# EAGLE library part ADRESA_0..2 (library library)
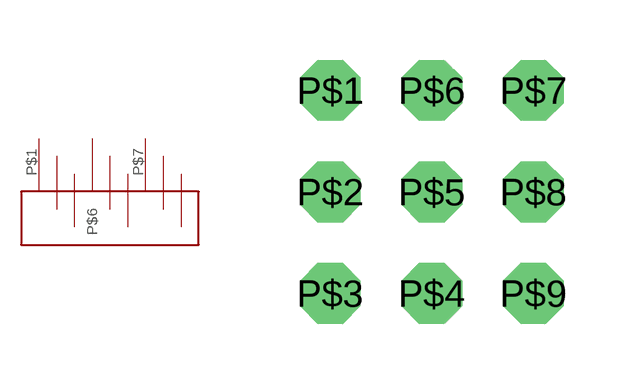
[diagram p10: symbol with the pads of ADRESA_0..2; footprint ADRESA_0..2]

Designator prefix -

## ADRESA_0..2  [ADRESA_0..2]
P$1  P$1
P$2  P$2
P$3  P$3
P$4  P$4
P$5  P$5
P$6  P$6
P$7  P$7
P$8  P$8
P$9  P$9

## Footprint ADRESA_0..2 (pad centres in mm)
drill 0.889 pad 1.524 octagon: P$1 0,0; P$2 0,-2.54; P$3 0,-5.08; P$4 2.54,-5.08; P$5 2.54,-2.54; P$6 2.54,0; P$7 5.08,0; P$8 5.08,-2.54; P$9 5.08,-5.08